# Altium schematic symbol library Servo.SchLib: 1 symbol
Pins are listed as number, name and electrical type; pins without a type are passive.

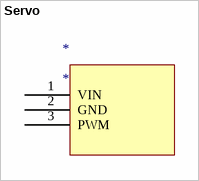
[diagram p0: symbol Servo]

## Servo
designator *
pins: 1 VIN, 2 GND, 3 PWM